# EAGLE library part 338070-08_S (library con-te-micro-match)
RECEPTACAL
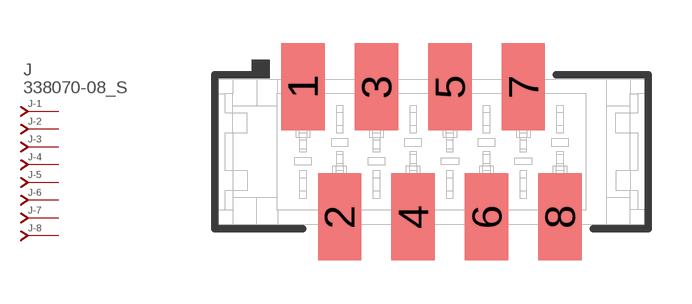
[diagram p9: symbol with the pads of 338070-08; footprint 338070-08]

Designator prefix J; gates -1=J-NV -2=J-N -3=J-N -4=J-N -5=J-N -6=J-N -7=J-N -8=J-N

## 338070-08_S  [338070-08]
1  -1:J  pas
2  -2:J  pas
3  -3:J  pas
4  -4:J  pas
5  -5:J  pas
6  -6:J  pas
7  -7:J  pas
8  -8:J  pas

## Footprint 338070-08 (pad centres in mm)
RECEPTACAL
smd 1.5 x 3: 1 -4.445,2.25; 2 -3.175,-2.25; 3 -1.905,2.25; 4 -0.635,-2.25; 5 0.635,2.25; 6 1.905,-2.25; 7 3.175,2.25; 8 4.445,-2.25